# EAGLE library part RFDUINO (library openGeiger)
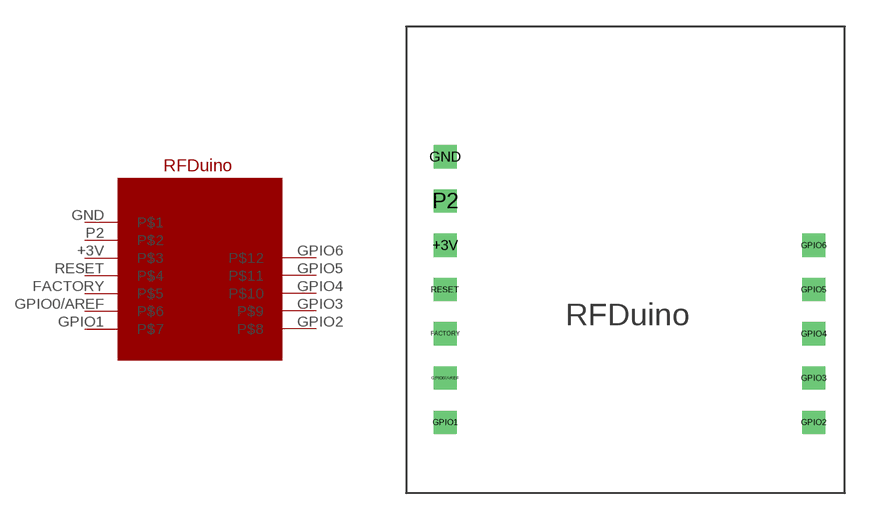
[diagram p1: symbol with the pads of RFDUINO; footprint RFDUINO]

Designator prefix -

## RFDUINO  [RFDUINO]
+3V  P$3
FACTORY  P$5
GND  P$1
GPIO0/AREF  P$6
GPIO1  P$7
GPIO2  P$8
GPIO3  P$9
GPIO4  P$10
GPIO5  P$11
GPIO6  P$12
P2  P$2
RESET  P$4

## Footprint RFDUINO (pad centres in mm)
drill 0.8 square: +3V 2.2,-12.35; FACTORY 2.2,-17.35; GND 2.2,-7.35; GPIO0/AREF 2.2,-19.85; GPIO1 2.2,-22.35; GPIO2 23,-22.35; GPIO3 23,-19.85; GPIO4 23,-17.35; GPIO5 23,-14.85; GPIO6 23,-12.35; P2 2.2,-9.85; RESET 2.2,-14.85